# EAGLE library part 1X9 (library headers(.1in))
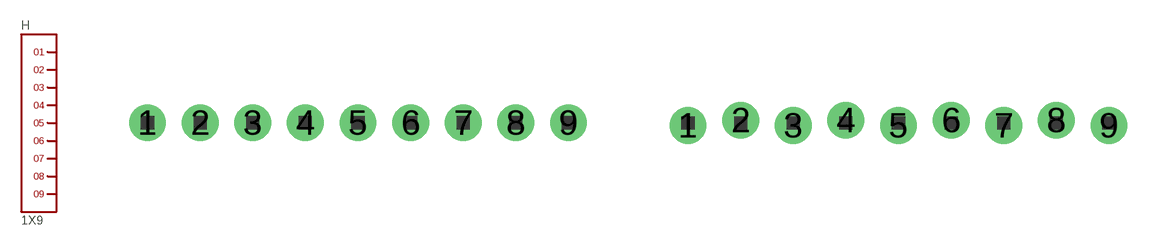
[diagram p11: symbol with the pads of 1X9; footprints 1X9, 1X9.LOCK]

Designator prefix H

## 1X9  [1X9]
1  1
2  2
3  3
4  4
5  5
6  6
7  7
8  8
9  9

## 1X9.LOCK  [1X9.LOCK]
Pads as for 1X9

## Footprint 1X9 (pad centres in mm)
drill 1.016 pad 1.778: 1 0,0; 2 2.54,0; 3 5.08,0; 4 7.62,0; 5 10.16,0; 6 12.7,0; 7 15.24,0; 8 17.78,0; 9 20.32,0

## Footprint 1X9.LOCK (pad centres in mm)
drill 1.016 pad 1.778: 1 0,-0.127; 2 2.54,0.127; 3 5.08,-0.127; 4 7.62,0.127; 5 10.16,-0.127; 6 12.7,0.127; 7 15.24,-0.127; 8 17.78,0.127; 9 20.32,-0.127